# EAGLE library part 74AC11138 (library 74ac-logic)
3 to 8 line DECODER/DEMULTIPLEXER
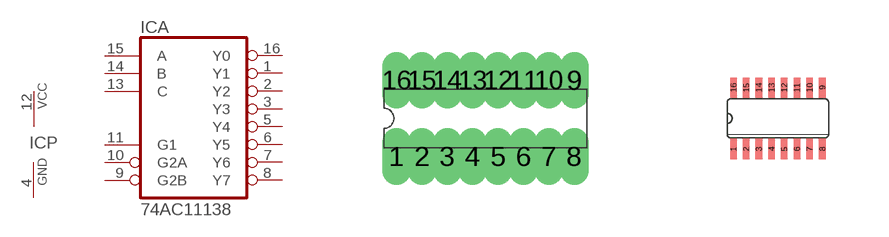
[diagram p15: symbol with the pads of DIL16; footprints DIL16, SO16]

Designator prefix IC; gates A=7411138 P=PWRN

## 74AC11138  [DIL16]
1  A:Y1  out
2  A:Y2  out
3  A:Y3  out
4  P:GND  pwr
5  A:Y4  out
6  A:Y5  out
7  A:Y6  out
8  A:Y7  out
9  A:G2B  in
10  A:G2A  in
11  A:G1  in
12  P:VCC  pwr
13  A:C  in
14  A:B  in
15  A:A  in
16  A:Y0  out

## 74AC11138D  [SO16]
Pads as for DIL16

## Footprint DIL16 (pad centres in mm)
Dual In Line Package
drill 0.203 long: 1 -2.223,-0.953; 2 -1.587,-0.953; 3 -0.953,-0.953; 4 -0.318,-0.953; 5 0.318,-0.953; 6 0.953,-0.953; 7 1.587,-0.953; 8 2.223,-0.953; 9 2.223,0.953; 10 1.587,0.953; 11 0.953,0.953; 12 0.318,0.953; 13 -0.318,0.953; 14 -0.953,0.953; 15 -1.587,0.953; 16 -2.223,0.953

## Footprint SO16 (pad centres in mm)
Small Outline package 150 mil
smd 0.165 x 0.508: 1 -1.111,-0.768; 2 -0.794,-0.768; 3 -0.476,-0.768; 4 -0.159,-0.768; 5 0.159,-0.768; 6 0.476,-0.768; 7 0.794,-0.768; 8 1.111,-0.768; 9 1.111,0.768; 10 0.794,0.768; 11 0.476,0.768; 12 0.159,0.768; 13 -0.159,0.768; 14 -0.476,0.768; 15 -0.794,0.768; 16 -1.111,0.768